# Altium integrated library 2-1437565-9.IntLib: 1 symbol
Pins are listed as number, name and electrical type; pins without a type are passive.

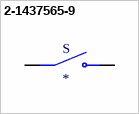
[diagram p0: symbol 2-1437565-9]

## 2-1437565-9
designator S
Tactile Switch SPST-NO Top Actuated Surface Mount; MF: TE Connectivity; MP: 2-1437565-9; Value: *; SnapEDA_Link: https://www.snapeda.com/parts/2-1437565-9/TE%20Connectivity/view-part/226518/?ref=snap; Availability: Unavailable; Price: None; TE_purchase_URL: https://www.te.com/usa-en/product-2-1437565-9.html?te_bu=Cor&te_type=disp&te_campaign=seda_glo_cor-seda-global-disp-prtnr-fy19-seda-model-bom-cta_sma-317_1&elqCampaignId=32493; Package: SMD-6 Omron Electronics
footprint SW_2-1437565-9
pins: 1 COM, 2 COM, 3 NO, 4 NO